# Altium footprint library HotSwap.PcbLib: 1 footprints
Each footprint in its own frame and in the unit in brackets; x right, y up, seen from the top. Pads: shape width x height; smd on the part's side, far side on the other; paste and mask are expansions set on the pad; w line width, h text height; cw(c..) or ccw(c..) is an arc to the next point about the centre after c.
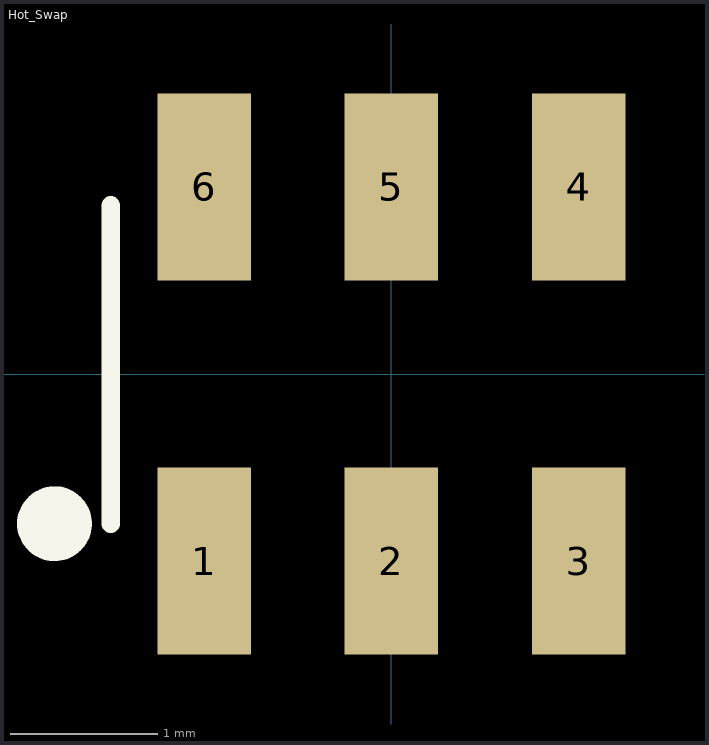
[diagram p0: the footprint, top view; thin cyan lines are the x and y axes]

## Hot_Swap [mil]
pads (6):
  rect 25x50 smd: 1(-50,-50) 2(0,-50) 3(50,-50) 4(50,50) 5(0,50) 6(-50,50)
Top Overlay:
  circle w10: c-90,-40 r5
  lines w5: -75,-40 -75,45
3D body: height 51, standoff 0, extent -65,-35 65,40